# EAGLE library part CS42448 (library cirrus)
CODEC 6-In, 8-Out, 108 dB, 192 kHz
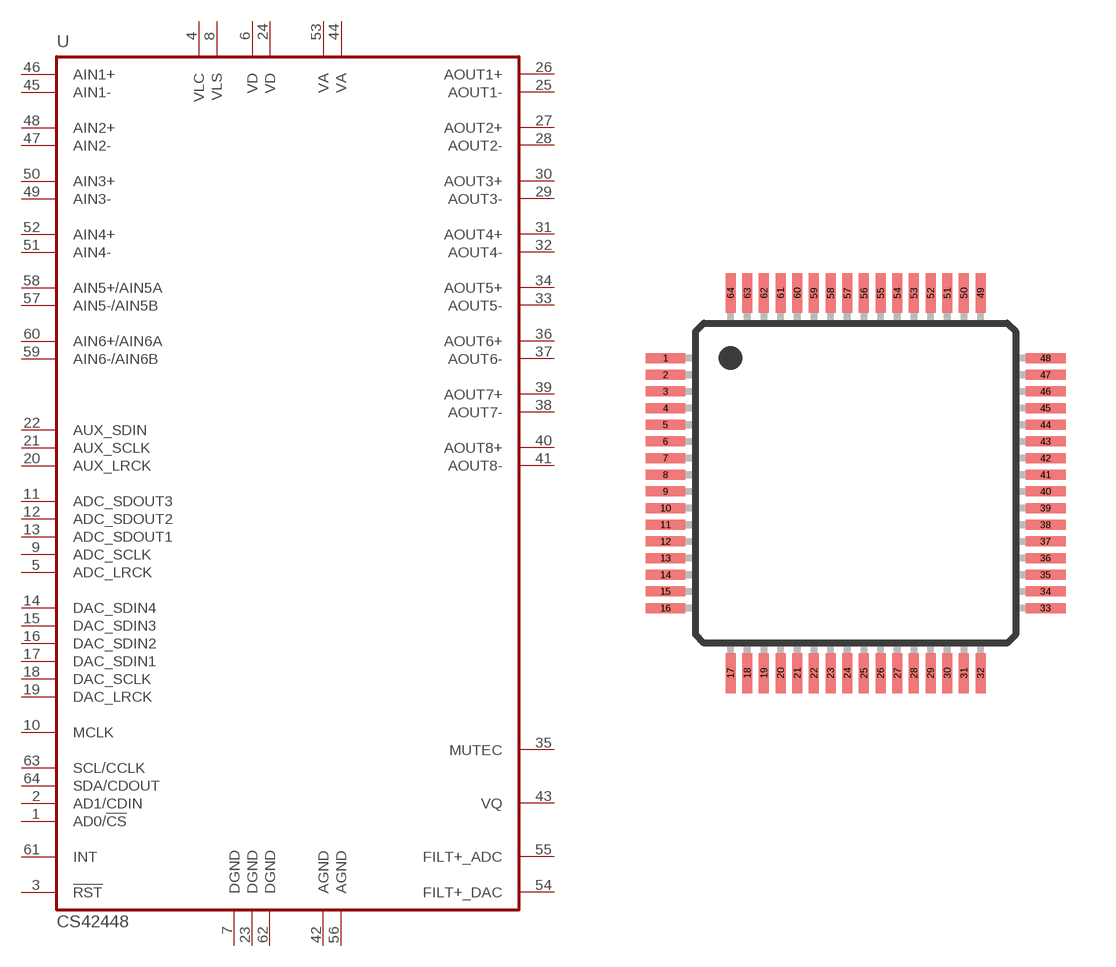
[diagram p16: symbol with the pads of LQFP64L; footprint LQFP64L]

Designator prefix U

## CS42448  [LQFP64L]
1  AD0/!CS!  in
2  AD1/CDIN  in
3  !RST!  in
4  VLC  in
5  ADC_LRCK
6  VD  pwr
7  DGND  pwr
8  VLS  in
9  ADC_SCLK
10  MCLK  in
11  ADC_SDOUT3  out
12  ADC_SDOUT2  out
13  ADC_SDOUT1  out
14  DAC_SDIN4  in
15  DAC_SDIN3  in
16  DAC_SDIN2  in
17  DAC_SDIN1  in
18  DAC_SCLK
19  DAC_LRCK
20  AUX_LRCK  out
21  AUX_SCLK  out
22  AUX_SDIN  in
23  DGND  pwr
24  VD  pas
25  AOUT1-  out
26  AOUT1+  out
27  AOUT2+  out
28  AOUT2-  out
29  AOUT3-  out
30  AOUT3+  out
31  AOUT4+  out
32  AOUT4-  out
33  AOUT5-  out
34  AOUT5+  out
35  MUTEC  out
36  AOUT6+  out
37  AOUT6-  out
38  AOUT7-  out
39  AOUT7+  out
40  AOUT8+  out
41  AOUT8-  out
42  AGND  pwr
43  VQ  out
44  VA  pwr
45  AIN1-  in
46  AIN1+  in
47  AIN2-  in
48  AIN2+  in
49  AIN3-  in
50  AIN3+  in
51  AIN4-  in
52  AIN4+  in
53  VA  pwr
54  FILT+_DAC  out
55  FILT+_ADC  out
56  AGND  pwr
57  AIN5-/AIN5B  in
58  AIN5+/AIN5A  in
59  AIN6-/AIN6B  in
60  AIN6+/AIN6A  in
61  INT  out
62  DGND
63  SCL/CCLK  in
64  SDA/CDOUT

## Footprint LQFP64L (pad centres in mm)
LQFP 64L pitch 0.5mm, body 10 mm x 10 mm
smd 1.2 x 0.3: 1 -5.7,3.75; 2 -5.7,3.25; 3 -5.7,2.75; 4 -5.7,2.25; 5 -5.7,1.75; 6 -5.7,1.25; 7 -5.7,0.75; 8 -5.7,0.25; 9 -5.7,-0.25; 10 -5.7,-0.75; 11 -5.7,-1.25; 12 -5.7,-1.75; 13 -5.7,-2.25; 14 -5.7,-2.75; 15 -5.7,-3.25; 16 -5.7,-3.75; 33 5.7,-3.75; 34 5.7,-3.25; 35 5.7,-2.75; 36 5.7,-2.25; 37 5.7,-1.75; 38 5.7,-1.25; 39 5.7,-0.75; 40 5.7,-0.25; 41 5.7,0.25; 42 5.7,0.75; 43 5.7,1.25; 44 5.7,1.75; 45 5.7,2.25; 46 5.7,2.75; 47 5.7,3.25; 48 5.7,3.75
smd 0.3 x 1.2: 17 -3.75,-5.7; 18 -3.25,-5.7; 19 -2.75,-5.7; 20 -2.25,-5.7; 21 -1.75,-5.7; 22 -1.25,-5.7; 23 -0.75,-5.7; 24 -0.25,-5.7; 25 0.25,-5.7; 26 0.75,-5.7; 27 1.25,-5.7; 28 1.75,-5.7; 29 2.25,-5.7; 30 2.75,-5.7; 31 3.25,-5.7; 32 3.75,-5.7; 49 3.75,5.7; 50 3.25,5.7; 51 2.75,5.7; 52 2.25,5.7; 53 1.75,5.7; 54 1.25,5.7; 55 0.75,5.7; 56 0.25,5.7; 57 -0.25,5.7; 58 -0.75,5.7; 59 -1.25,5.7; 60 -1.75,5.7; 61 -2.25,5.7; 62 -2.75,5.7; 63 -3.25,5.7; 64 -3.75,5.7